# EAGLE library part 2338792-1 (library 2338792-1)
USB Connectors, C, 3.1 Gen 1, Standard Profile, Receptacle, 1 Port, Top, Right Angle, Reel, Through Hole - Solder / Surface Mount, Cable-to-Board Source: Datasheet <https://www.te.com/commerce/DocumentDelivery/DDEController?Action=srchrtrv&DocNm=2338792&DocType=Customer Drawing&DocLang=English&DocFormat=pdf&PartCntxt=2338792-1.html>
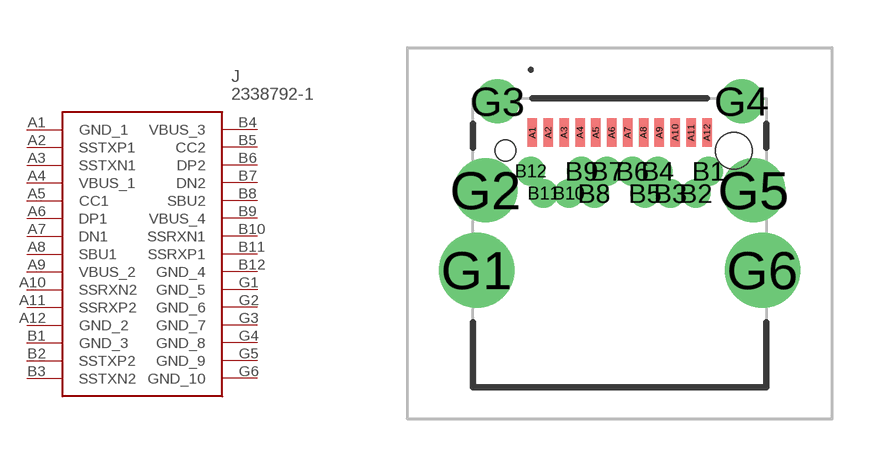
[diagram p0: symbol with the pads of 23387921; footprint 23387921]

Designator prefix J

## 2338792-1 (Description: USB Connectors, C, 3.1 Gen 1, Standard Profile, Receptacle, 1 Port, Top, Right Angle, Reel, Through Hole - Solder / Surface Mount, Cable-to-Board; Height: 3.55mm; Manufacturer_Name: TE Connectivity; Manufacturer_Part_Number: 2338792-1; Mouser_Part_Number: 571-2338792-1; Mouser_Price-Stock: https://www.mouser.co.uk/ProductDetail/TE-Connectivity/2338792-1?qs=P1JMDcb91o48A7J0Lklrxw%3D%3D)  [23387921]
A1  GND_1
A2  SSTXP1
A3  SSTXN1
A4  VBUS_1
A5  CC1
A6  DP1
A7  DN1
A8  SBU1
A9  VBUS_2
A10  SSRXN2
A11  SSRXP2
A12  GND_2
B1  GND_3
B2  SSTXP2
B3  SSTXN2
B4  VBUS_3
B5  CC2
B6  DP2
B7  DN2
B8  SBU2
B9  VBUS_4
B10  SSRXN1
B11  SSRXP1
B12  GND_4
G1  GND_5
G2  GND_6
G3  GND_7
G4  GND_8
G5  GND_9
G6  GND_10

## Footprint 23387921 (pad centres in mm)
2338792-1-2
smd 0.3 x 0.9: A1 -2.75,3.475; A2 -2.25,3.475; A3 -1.75,3.475; A4 -1.25,3.475; A5 -0.75,3.475; A6 -0.25,3.475; A7 0.25,3.475; A8 0.75,3.475; A9 1.25,3.475; A10 1.75,3.475; A11 2.25,3.475; A12 2.75,3.475
drill 0.4 pad 0.65: B1 2.8,2.255; B2 2.4,1.555; B3 1.6,1.555; B4 1.2,2.255; B5 0.8,1.555; B6 0.4,2.255; B7 -0.4,2.255; B8 -0.8,1.555; B9 -1.2,2.255; B10 -1.6,1.555; B11 -2.4,1.555; B12 -2.8,2.255
drill 1.58 pad 2.37: G1 -4.5,-0.86; G6 4.5,-0.86
drill 1.34 pad 2.01: G2 -4.22,1.655; G5 4.22,1.655
drill 0.85 pad 1.381: G3 -3.845,4.455; G4 3.845,4.455
hole 0.65 at -3.6,2.905
hole 1.15 at 3.6,2.905